# Altium footprint library RNCF0603AKT10R0.PcbLib: 3 footprints
Each footprint in its own frame and in the unit in brackets; x right, y up, seen from the top. Pads: shape width x height; smd on the part's side, far side on the other; paste and mask are expansions set on the pad; w line width, h text height; cw(c..) or ccw(c..) is an arc to the next point about the centre after c.
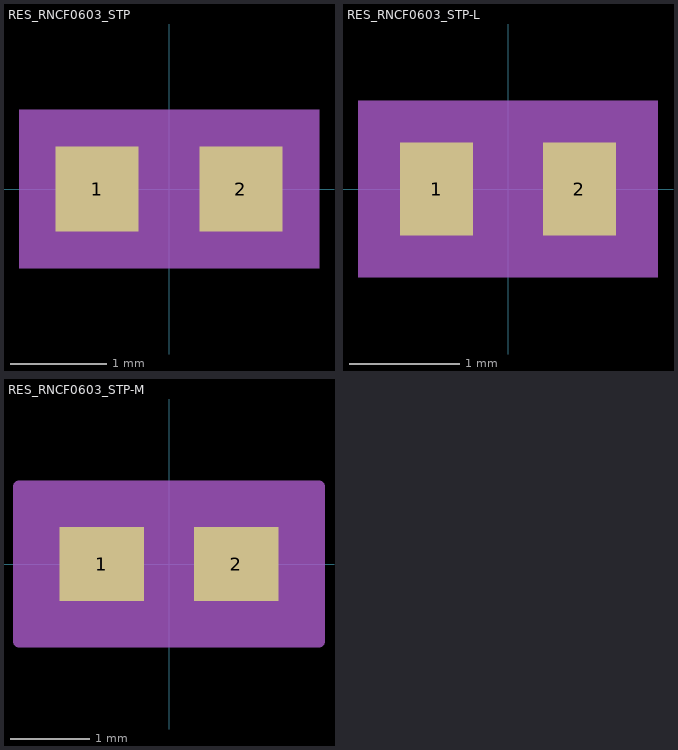
[diagram p0: the footprints below, top view; thin cyan lines are the x and y axes]

## RES_RNCF0603_STP [mil]
pads (2):
  rect 34x35 smd paste+0 mask+0: 1(-29.5,0) 2(29.5,0)
Mechanical 5:
  region: 61.5,-32.5 -61.5,-32.5 -61.5,32.5 61.5,32.5
Mechanical 13:
  lines w1: -32.5,-17.5 -32.5,17.5 ; -32.5,-17.5 -12.5,-17.5 -12.5,17.5 -32.5,17.5 ; -32.5,-17.5 32.5,-17.5 ; -32.5,-17.5 -32.5,17.5 ; -32.5,17.5 32.5,17.5 ; 32.5,-17.5 12.5,-17.5 12.5,17.5 32.5,17.5 ; 32.5,-17.5 32.5,17.5 ; 32.5,-17.5 32.5,17.5
Mechanical 15:
  region: 56.5,-27.5 -56.5,-27.5 -56.5,27.5 56.5,27.5
  lines w6: -56.5,-27.5 -56.5,27.5 56.5,27.5 56.5,-27.5 -56.5,-27.5
3D body "RES_RNCF0603_STP.step": height 22.01, standoff 0, extent -32.52,-17.48 32.52,17.48

## RES_RNCF0603_STP-L [mil]
pads (2):
  rect 26x33 smd paste+0 mask+0: 1(-25.5,0) 2(25.5,0)
Mechanical 5:
  region: 53.5,-31.5 -53.5,-31.5 -53.5,31.5 53.5,31.5
Mechanical 13:
  lines w1: -32.5,-17.5 -32.5,17.5 ; -32.5,-17.5 -12.5,-17.5 -12.5,17.5 -32.5,17.5 ; -32.5,-17.5 32.5,-17.5 ; -32.5,-17.5 -32.5,17.5 ; -32.5,17.5 32.5,17.5 ; 32.5,-17.5 12.5,-17.5 12.5,17.5 32.5,17.5 ; 32.5,-17.5 32.5,17.5 ; 32.5,-17.5 32.5,17.5
Mechanical 15:
  region: 42.5,-20.5 -42.5,-20.5 -42.5,20.5 42.5,20.5
  lines w6: -42.5,-20.5 -42.5,20.5 42.5,20.5 42.5,-20.5 -42.5,-20.5
3D body "RES_RNCF0603_STP.step": height 22.01, standoff 0, extent -32.52,-17.48 32.52,17.48

## RES_RNCF0603_STP-M [mil]
pads (2):
  rect 42x37 smd paste+0 mask+0: 1(-33.5,0) 2(33.5,0)
Mechanical 5:
  region: 69.5,-33.5 -69.5,-33.5 -69.5,33.5 69.5,33.5
Mechanical 13:
  lines w1: -32.5,-17.5 -32.5,17.5 ; -32.5,-17.5 32.5,-17.5 ; -32.5,-17.5 -12.5,-17.5 -12.5,17.5 -32.5,17.5 ; -32.5,-17.5 -32.5,17.5 ; -32.5,17.5 32.5,17.5 ; 32.5,-17.5 32.5,17.5 ; 32.5,-17.5 32.5,17.5 ; 32.5,-17.5 12.5,-17.5 12.5,17.5 32.5,17.5
Mechanical 15:
  region: 74.5,-38.5 -74.5,-38.5 -74.5,38.5 74.5,38.5
  lines w6: -74.5,-38.5 74.5,-38.5 74.5,38.5 -74.5,38.5 -74.5,-38.5
3D body "RES_RNCF0603_STP.step": height 22.01, standoff 0, extent -32.52,-17.48 32.52,17.48